# Altium schematic symbol library 16SEPC100M+TSS.SchLib: 1 symbol
Pins are listed as number, name and electrical type; pins without a type are passive.

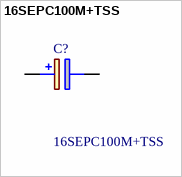
[diagram p0: symbol 16SEPC100M+TSS]

## 16SEPC100M+TSS
designator C?
Panasonic Aluminium Electrolytic Capacitor 150uF 16V dc 6.3mm Through Hole C6 OSCON SEP Series +105C; Geometry.Height: 6mm; Manufacturer_Name: Panasonic; Manufacturer_Part_Number: 16SEPC100M+TSS; Mouser Part Number: 667-16SEPC100M+TSS; Mouser Price/Stock: https://www.mouser.co.uk/ProductDetail/Panasonic/16SEPC100M%2bTSS?qs=OE1iw1LrrPEAt2lEmEitdA%3D%3D; Arrow Part Number: 16SEPC100M+TSS; Arrow Price/Stock: https://www.arrow.com/en/products/16sepc100mtss/panasonic?region=nac; Datasheet Link: http://industrial.panasonic.com/cdbs/www-data/pdf/AAB8000/AAB8000C247.pdf
footprint CAPPRD250W45D630H600
pins: 1 +, 2 -